# Altium footprint library 5360.PcbLib: 1 footprints
Each footprint in its own frame and in the unit in brackets; x right, y up, seen from the top. Pads: shape width x height; smd on the part's side, far side on the other; paste and mask are expansions set on the pad; w line width, h text height; cw(c..) or ccw(c..) is an arc to the next point about the centre after c.
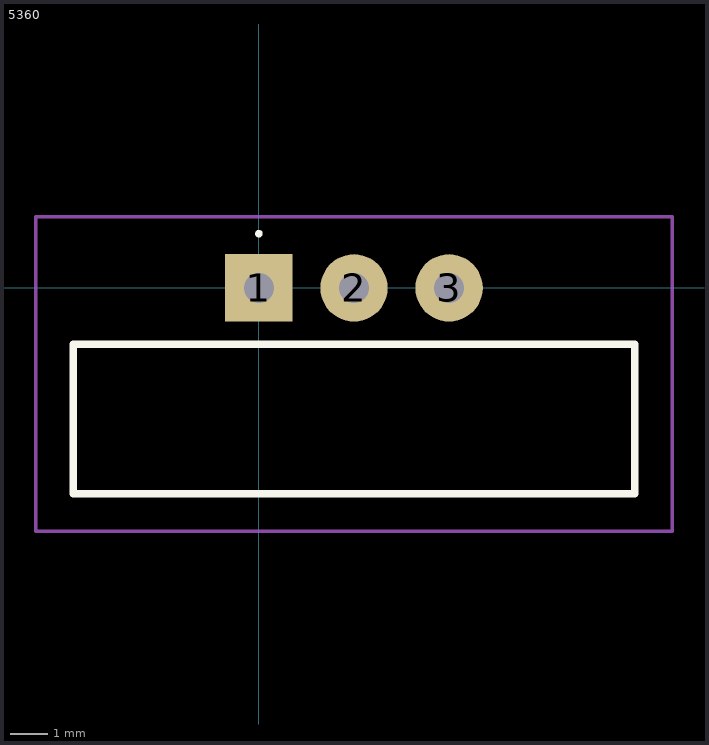
[diagram p0: the footprint, top view; thin cyan lines are the x and y axes]

## 5360 [mm]
pads (3):
  rect 1.8x1.8 hole 0.8: 1(0,0)
  round 1.8 hole 0.8: 2(2.54,0) 3(5.08,0)
Top Overlay:
  lines w0.1: 0,1.4 0,1.4 ; 0,1.4 ccw(c0,1.45) 0,1.5 ; 0,1.4 cw(c0,1.45) 0,1.5 ; 0,1.4 0,1.4 ; 0,1.4 ccw(c0,1.45) 0,1.5 ; 0,1.5 0,1.5
  lines w0.2: -4.96,-5.5 -4.96,-1.5 10.04,-1.5 10.04,-5.5 -4.96,-5.5
Mechanical 15:
  lines w0.1: -4.96,-5.5 10.04,-5.5 10.04,-1.5 -4.96,-1.5 -4.96,-5.5
Mechanical 20:
  lines w0.1: -5.96,-6.5 11.04,-6.5 11.04,1.9 -5.96,1.9 -5.96,-6.5